# Altium footprint library bitbots.PcbLib: 27 footprints (part 2 of 2)
Each footprint in its own frame and in the unit in brackets; x right, y up, seen from the top. Pads: shape width x height; smd on the part's side, far side on the other; paste and mask are expansions set on the pad; w line width, h text height; cw(c..) or ccw(c..) is an arc to the next point about the centre after c.
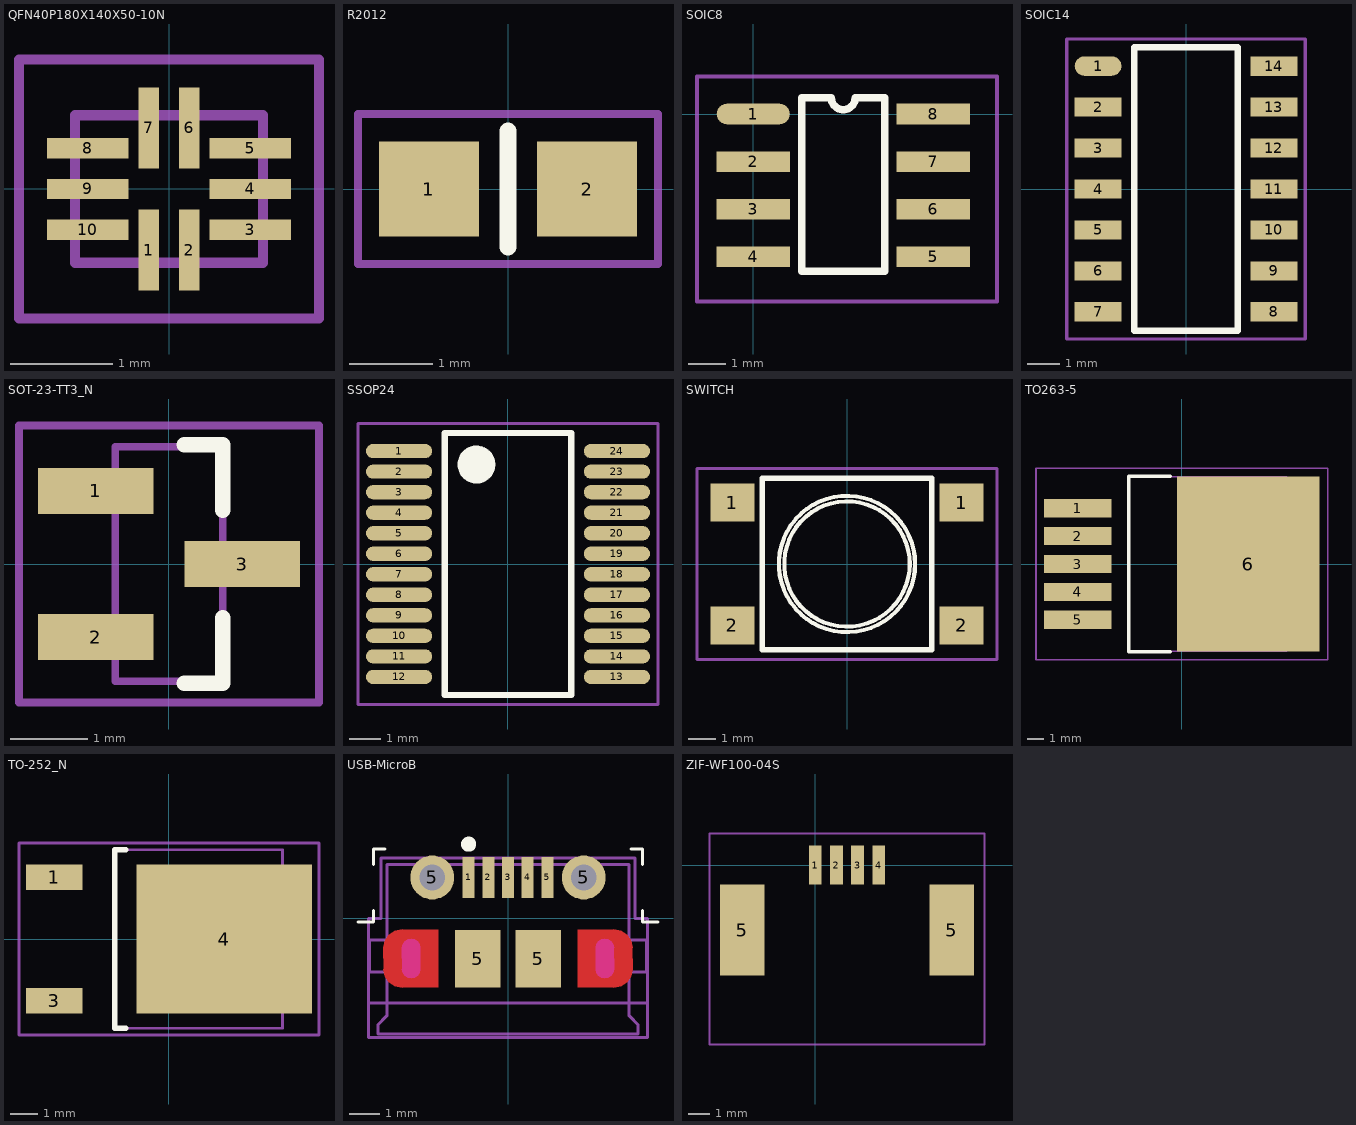
[diagram p1: the footprints below, top view; thin cyan lines are the x and y axes]

## QFN40P180X140X50-10N [mm] "QFN, 10-Leads, Body 1,80x1,40mm, Pitch 0,40mm, IPC Medium Density"
height 0.5
pads (10):
  rect 0.2x0.8 smd: 1(-0.2,-0.6) 2(0.2,-0.6) 6(0.2,0.6) 7(-0.2,0.6)
  rect 0.8x0.2 smd: 3(0.8,-0.4) 4(0.8,0) 5(0.8,0.4) 8(-0.8,0.4) 9(-0.8,0) 10(-0.8,-0.4)
Mechanical 13:
  lines w0.1: -0.925,-0.725 -0.925,0.725 0.925,0.725 0.925,-0.725 -0.925,-0.725
Mechanical 15:
  lines w0.1: -1.475,-1.275 -1.475,1.275 1.475,1.275 1.475,-1.275 -1.475,-1.275
3D body: height 0.57, standoff 0.01, extent -0.925,-0.725 0.925,0.725

## R2012 [mm]
pads (2):
  rect 1.2x1.14 smd: 1(-0.95,0) 2(0.95,0)
Top Overlay:
  lines w0.2: 0,-0.7 0,0.7
Mechanical 15:
  lines w0.1: -1.8,-0.9 -1.8,0.9 1.8,0.9 1.8,-0.9 -1.8,-0.9
3D body: height 0.78, standoff 0, extent -1,-0.625 1,0.625

## SOIC8 [mm]
pads (8):
  oval 1.95x0.55 smd: 1(0,0)
  rect 1.95x0.55 smd: 2(0,-1.27) 3(0,-2.54) 4(0,-3.81) 5(4.8,-3.81) 6(4.8,-2.54) 7(4.8,-1.27) 8(4.8,0)
Top Overlay:
  lines w0.2: 1.3,-4.2 1.3,0.435 2.083,0.435 ccw(c2.4,0.435) 2.718,0.435 3.5,0.435 3.5,-4.2 1.3,-4.2
Mechanical 15:
  lines w0.1: -1.5,-5 -1.5,1 6.5,1 6.5,-5 -1.5,-5
3D body: height 1.75, standoff 0, extent -0.6,-4.35 5.4,0.55

## SOIC14 [mm] "SOIC, 14-Leads, Body 8,65x3,90mm, Pitch 1,27mm, IPC Medium Density"
height 1.75
pads (14):
  oval 1.45x0.6 smd: 1(-2.725,3.81)
  rect 1.45x0.6 smd: 2(-2.725,2.54) 3(-2.725,1.27) 4(-2.725,0) 5(-2.725,-1.27) 6(-2.725,-2.54) 7(-2.725,-3.81) 8(2.725,-3.81) 9(2.725,-2.54) 10(2.725,-1.27) 11(2.725,0) 12(2.725,1.27) 13(2.725,2.54) 14(2.725,3.81)
Top Overlay:
  lines w0.2: -1.6,-4.4 1.6,-4.4 1.6,4.4 -1.6,4.4 -1.6,-4.4
Mechanical 15:
  lines w0.1: -3.7,-4.65 3.7,-4.65 3.7,4.65 -3.7,4.65 -3.7,-4.65
3D body: height 1.75, standoff 0, extent -2.9,-4.375 3.1,4.375

## SOT-23-TT3_N [mm] "SOT23, 3-Leads, Body 2.9x1.3mm, Pitch 0.95mm, Lead Span 2.4mm, IPC Medium Density"
height 1.12
pads (3):
  rect 1.5x0.6 smd: 1(-0.95,0.95) 2(-0.95,-0.95) 3(0.95,0)
Top Overlay:
  lines w0.2: 0.2,-1.55 0.7,-1.55 0.7,-0.7 ; 0.2,1.55 0.7,1.55 0.7,0.7
Mechanical 13:
  lines w0.1: -0.7,-1.525 -0.7,1.525 0.7,1.525 0.7,-1.525 -0.7,-1.525
Mechanical 15:
  lines w0.1: -1.95,-1.8 -1.95,1.8 1.95,1.8 1.95,-1.8 -1.95,-1.8
3D body: height 0.98, standoff -0.01, extent -1.21,-1.448 1.21,1.448

## SSOP24 [mm]
pads (24):
  oval 2.1x0.45 smd: 1(-3.45,3.575) 2(-3.45,2.925) 3(-3.45,2.275) 4(-3.45,1.625) 5(-3.45,0.975) 6(-3.45,0.325) 7(-3.45,-0.325) 8(-3.45,-0.975) 9(-3.45,-1.625) 10(-3.45,-2.275) 11(-3.45,-2.925) 12(-3.45,-3.575) 13(3.45,-3.575) 14(3.45,-2.925) 15(3.45,-2.275) 16(3.45,-1.625) 17(3.45,-0.975) 18(3.45,-0.325) 19(3.45,0.325) 20(3.45,0.975) 21(3.45,1.625) 22(3.45,2.275) 23(3.45,2.925) 24(3.45,3.575)
Top Overlay:
  circle w0.6: c-1,3.15 r0.3
  lines w0.2: -2,-4.15 -2,4.15 2,4.15 2,-4.15 -2,-4.15
Mechanical 15:
  lines w0.1: -4.75,-4.45 -4.75,4.45 4.75,4.45 4.75,-4.45 -4.75,-4.45
3D body: height 1.85, standoff -0.05, extent -3.575,-4.116 3.975,4.116

## SWITCH [mm]
pads (4):
  rect 1.6x1.4 smd: 1(-4.2,2.25) 1(4.2,2.25) 2(-4.2,-2.25) 2(4.2,-2.25)
Top Overlay:
  circle w0.15: c0,0 r2.5
  circle w0.15: c0,0 r2.3
  lines w0.2: -3.1,-3.15 -3.1,3.15 3.1,3.15 3.1,-3.15 -3.1,-3.15
Mechanical 15:
  lines w0.1: -5.5,-3.5 -5.5,3.5 5.5,3.5 5.5,-3.5 -5.5,-3.5
3D body: height 4.3, standoff 0, extent -4.5,-3 4.5,3

## TO263-5 [mm] "D2-PAK, 6-Leads, Body 9x10.2mm, Pitch 1.7mm, Lead Span 15.2mm, IPC Low Density"
height 4.83
pads (6):
  rect 4.1x1.1 smd: 1(-6.35,3.4) 2(-6.35,1.7) 3(-6.35,0) 4(-6.35,-1.7) 5(-6.35,-3.4)
  rect 8.7x10.7 smd: 6(4.05,0)
Top Overlay:
  lines w0.2: -0.7,-5.35 -3.25,-5.35 -3.25,5.35 -0.7,5.35
Mechanical 13:
  lines w0.1: -3.25,-5.325 6.4,-5.325 6.4,5.325 -3.25,5.325 -3.25,-5.325
Mechanical 15:
  lines w0.1: -8.9,-5.85 8.9,-5.85 8.9,5.85 -8.9,5.85 -8.9,-5.85
3D body: height 4.78, standoff -0.02, extent -7.89,-5 7.78,5

## TO-252_N [mm] "D-PAK, 4-Leads, Body 6.1x6.5mm, Pitch 2.28mm, Lead Span 9.7mm, IPC Medium Density"
height 2.4
pads (3):
  rect 2.1x0.95 smd: 1(-4.25,2.28) 3(-4.25,-2.28)
  rect 6.5x5.5 smd: 4(2.05,0)
Top Overlay:
  lines w0.2: -1.6,-3.3 -2,-3.3 -2,3.3 -1.6,3.3
Mechanical 13:
  lines w0.1: -2,-3.3 4.2,-3.3 4.2,3.3 -2,3.3 -2,-3.3
Mechanical 15:
  lines w0.1: -0.5,0 0.5,0 ; 0,-0.5 0,0.5 ; -5.55,-3.55 5.55,-3.55 5.55,3.55 -5.55,3.55 -5.55,-3.55
3D body: height 2.34, standoff -0.07, extent -5.011,-3.27 4.928,3.27

## USB-MicroB [mm]
pads (9):
  rect 0.4x1.35 smd: 1(-1.3,1.35) 2(-0.65,1.35) 3(0,1.35) 4(0.65,1.35) 5(1.3,1.35)
  round 1.45 hole 0.85: 5(-2.5,1.35) 5(2.5,1.35)
  rect 1.5x1.9 smd: 5(-1,-1.338) 5(1,-1.338)
Top Layer:
  region: -2.3,-0.375 -2.3,-2.275 -3.5,-2.287 -3.734,-2.24 -3.933,-2.108 -4.065,-1.909 -4.112,-1.675 -4.1,-1.675 -4.112,-0.975 -4.065,-0.741 -3.933,-0.542 -3.734,-0.41 -3.5,-0.363 -3.5,-0.375
  region: 2.3,-2.275 2.3,-0.375 3.5,-0.363 3.734,-0.41 3.933,-0.542 4.065,-0.741 4.112,-0.975 4.1,-0.975 4.112,-1.675 4.065,-1.909 3.933,-2.108 3.734,-2.24 3.5,-2.287 3.5,-2.275
Top Overlay:
  circle w0.25: c-1.3,2.45 r0.125
  lines w0.1: -4.953,-0.127 -4.445,-0.127 -4.445,0.254 ; -4.445,1.778 -4.445,2.286 -4.064,2.286 ; 4.064,2.286 4.445,2.286 4.445,1.778 ; 4.445,0.254 4.445,-0.127 4.953,-0.127
Keep-Out Layer:
  board cut-out: -2.891,-1.675 -2.914,-1.792 -2.981,-1.891 -3.08,-1.958 -3.197,-1.981 -3.314,-1.958 -3.413,-1.891 -3.48,-1.792 -3.503,-1.675 -3.497,-1.675 -3.503,-0.975 -3.48,-0.858 -3.413,-0.759 -3.314,-0.692 -3.197,-0.669 -3.08,-0.692 -2.981,-0.759 -2.914,-0.858 -2.891,-0.975 -2.897,-0.975
  board cut-out: 2.891,-0.975 2.914,-0.858 2.981,-0.759 3.08,-0.692 3.197,-0.669 3.314,-0.692 3.413,-0.759 3.48,-0.858 3.503,-0.975 3.497,-0.975 3.503,-1.675 3.48,-1.792 3.413,-1.891 3.314,-1.958 3.197,-1.981 3.08,-1.958 2.981,-1.891 2.914,-1.792 2.891,-1.675 2.897,-1.675
Mechanical 13:
  lines w0.1: -4.6,-2.8 4.6,-2.8 ; -4,1.78 -4,-0.72 -4.572,-0.72 -4.572,-1.778 -4,-1.778 -4,-3.22 -4.3,-3.52 -4.3,-3.82 4.3,-3.82 4.3,-3.52 4,-3.22 4,-1.778 4.572,-1.778 4.572,-0.72 4,-0.72 4,1.78 ; -4,1.78 4,1.78 ; -4,1.78 4,1.78
Mechanical 15:
  lines w0.1: -4.6,-3.937 -4.6,-2.8 -4.6,0 -4.2,0 -4.2,2 4.2,2 4.2,0 4.6,0 4.6,-2.8 4.6,-3.937 -4.6,-3.937
3D body: height 2.67, standoff -0.63, extent -4.1,-3.9 4.1,1.5

## ZIF-WF100-04S [mm]
pads (6):
  rect 0.6x1.85 smd: 1(0,0) 2(1,0) 3(2,0) 4(3,0)
  rect 2.1x4.3 smd: 5(-3.45,-3.075) 5(6.45,-3.075)
Mechanical 15:
  lines w0.1: -5,-8.5 8,-8.5 8,1.5 -5,1.5 -5,-8.5
3D body: height 2.71, standoff 0.01, extent -3.65,-8.025 6.65,0.875